# Altium schematic symbol library QUTMS_PowerSupplyLibrary.SchLib: 2 symbols
Pins are listed as number, name and electrical type; pins without a type are passive.

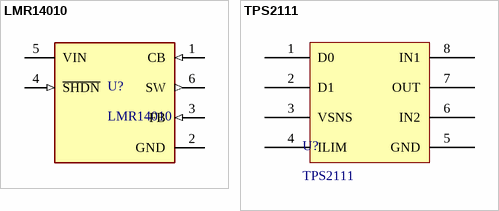
[diagram p0: symbols LMR14010 to TPS2111]

## LMR14010
designator U?
footprint LMR14010
pins: 1 CB (in), 2 GND (power), 3 FB (in), 4 ~{SHDN} (in), 5 VIN (power), 6 SW (out)

## TPS2111
designator U?
Autoswitching Power MUX
footprint TPS2111 (Autoswitching Power Mux)
pins: 1 D0, 2 D1, 3 VSNS, 4 ILIM, 5 GND, 6 IN2, 7 OUT, 8 IN1